# EAGLE library part LS-2074M2G (library Backoffice Library)
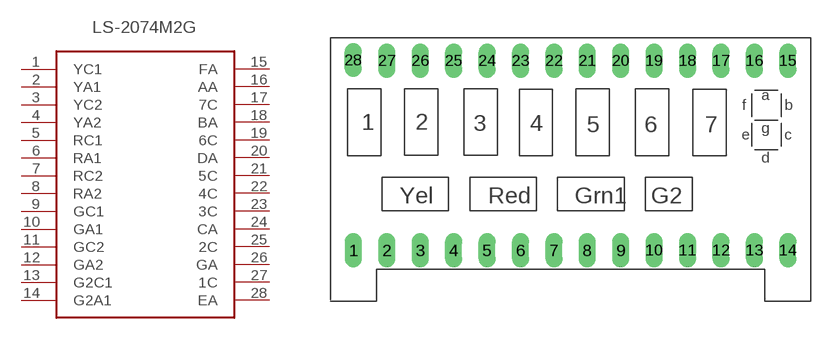
[diagram p1: symbol with the pads of LS-2074M2G; footprint LS-2074M2G]

Designator prefix -

## LS-2074M2G  [LS-2074M2G]
1  YC1
2  YA1
3  YC2
4  YA2
5  RC1
6  RA1
7  RC2
8  RA2
9  GC1
10  GA1
11  GC2
12  GA2
13  G2C1
14  G2A1
15  FA
16  AA
17  7C
18  BA
19  6C
20  DA
21  5C
22  4C
23  3C
24  CA
25  2C
26  GA
27  1C
28  EA

## Footprint LS-2074M2G (pad centres in mm)
drill 0.8 long: 1 1.74,-16.14; 2 4.28,-16.14; 3 6.82,-16.14; 4 9.36,-16.14; 5 11.9,-16.14; 6 14.44,-16.14; 7 16.98,-16.14; 8 19.52,-16.14; 9 22.06,-16.14; 10 24.6,-16.14; 11 27.14,-16.14; 12 29.68,-16.14; 13 32.22,-16.14; 14 34.76,-16.14; 15 34.76,-1.74; 16 32.22,-1.74; 17 29.68,-1.74; 18 27.14,-1.74; 19 24.6,-1.74; 20 22.06,-1.74; 21 19.52,-1.74; 22 16.98,-1.74; 23 14.44,-1.74; 24 11.9,-1.74; 25 9.36,-1.74; 26 6.82,-1.74; 27 4.28,-1.74; 28 1.72,-1.7